# Altium integrated library Cypress USB Low-Speed.IntLib: 40 symbols (part 1 of 3)
Pins are listed as number, name and electrical type; pins without a type are passive.

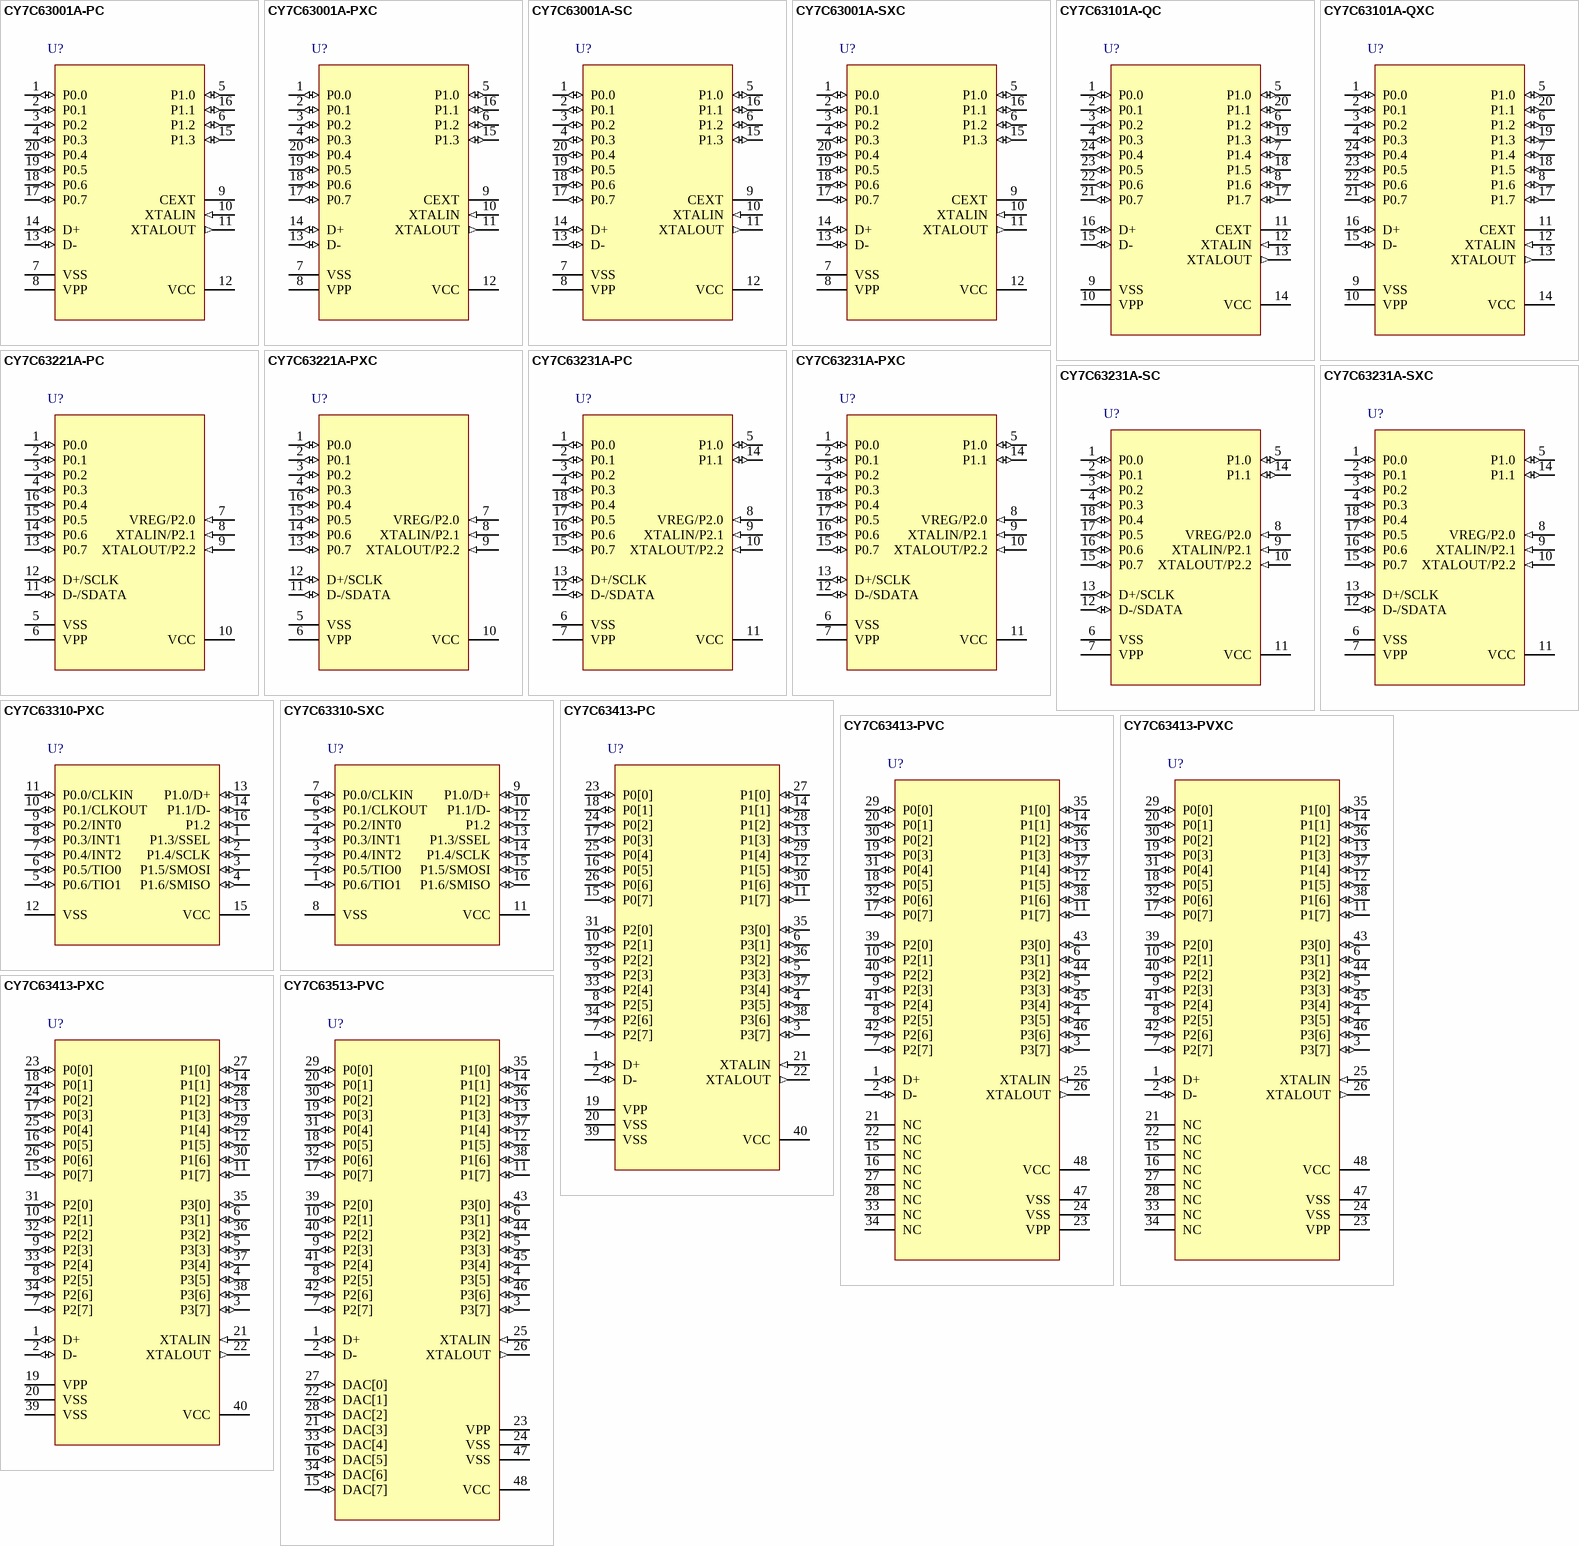
[diagram p0: symbols CY7C63001A-PC to CY7C63513-PVC]

## CY7C63001A-PC
designator U?
Low-Speed USB Peripheral Controller, 4KB EPROM, 20-Pin PDIP, Commercial Grade,; Published: 6-Oct-2005; DatasheetVersion: rev.A, Oct-2004; PackageVersion: Oct-2004; PackageReference: P5; Publisher: Altium Limited; PackageDescription: DIP, Molded; 20 Leads; Row Spacing 7.62 mm; Pitch 2.54 mm; Code_JEDEC: MS-001-AD; ComponentLink1Description: Manufacturer Link; ComponentLink1URL: http://www.cypress.com/; ComponentLink2Description: Datasheet; ComponentLink2URL: http://www.cypress.com/portal/server.pt/gateway/PTARGS_0_2_1524_209_259_43/http%3B/sjapp20.mis.cypress.com%3B7001/publishedcontent/publish/design_resources/datasheets/contents/cy7c63101a_5.pdf
footprint P5 (DIP, Molded; 20 Leads; Row Spacing 7.62 mm; Pitch 2.54 mm)
pins: 1 P0.0 (io) "Port 0 bit 0", 2 P0.1 (io) "Port 0 bit 1", 3 P0.2 (io) "Port 0 bit 2", 4 P0.3 (io) "Port 0 bit 3", 5 P1.0 (io) "Port 1 bit 0", 6 P1.2 (io) "Port 1 bit 2", 7 VSS (power) "Ground", 8 VPP (power) "Programming voltage supply, tie to ground during normal operation", 9 CEXT "Connects to external R/C timing circuit for optional ‘suspend’ wakeup", 10 XTALIN (in) "Ceramic resonator", 11 XTALOUT (out) "Ceramic resonator out", 12 VCC (power) "Voltage supply", 13 D- (io) "USB data-", 14 D+ (io) "USB data+", 15 P1.3 (io) "Port 1 bit 3", 16 P1.1 (io) "Port 1 bit 1", 17 P0.7 (io) "Port 0 bit 7", 18 P0.6 (io) "Port 0 bit 6", 19 P0.5 (io) "Port 0 bit 5", 20 P0.4 (io) "Port 0 bit 4"

## CY7C63001A-PXC
designator U?
Low-Speed USB Peripheral Controller, 4KB EPROM, 20-Pin PDIP, Commercial Grade, Pb-free; Published: 6-Oct-2005; DatasheetVersion: rev.A, Oct-2004; PackageVersion: Oct-2004; PackageReference: P5; Publisher: Altium Limited; PackageDescription: DIP, Molded; 20 Leads; Row Spacing 7.62 mm; Pitch 2.54 mm; Code_JEDEC: MS-001-AD; ComponentLink1Description: Manufacturer Link; ComponentLink1URL: http://www.cypress.com/; ComponentLink2Description: Datasheet; ComponentLink2URL: http://www.cypress.com/portal/server.pt/gateway/PTARGS_0_2_1524_209_259_43/http%3B/sjapp20.mis.cypress.com%3B7001/publishedcontent/publish/design_resources/datasheets/contents/cy7c63101a_5.pdf
footprint P5 (DIP, Molded; 20 Leads; Row Spacing 7.62 mm; Pitch 2.54 mm)
pins: 1 P0.0 (io) "Port 0 bit 0", 2 P0.1 (io) "Port 0 bit 1", 3 P0.2 (io) "Port 0 bit 2", 4 P0.3 (io) "Port 0 bit 3", 5 P1.0 (io) "Port 1 bit 0", 6 P1.2 (io) "Port 1 bit 2", 7 VSS (power) "Ground", 8 VPP (power) "Programming voltage supply, tie to ground during normal operation", 9 CEXT "Connects to external R/C timing circuit for optional ‘suspend’ wakeup", 10 XTALIN (in) "Ceramic resonator", 11 XTALOUT (out) "Ceramic resonator out", 12 VCC (power) "Voltage supply", 13 D- (io) "USB data-", 14 D+ (io) "USB data+", 15 P1.3 (io) "Port 1 bit 3", 16 P1.1 (io) "Port 1 bit 1", 17 P0.7 (io) "Port 0 bit 7", 18 P0.6 (io) "Port 0 bit 6", 19 P0.5 (io) "Port 0 bit 5", 20 P0.4 (io) "Port 0 bit 4"

## CY7C63001A-SC
designator U?
Low-Speed USB Peripheral Controller, 4KB EPROM, 20-Pin SOIC, Commercial Grade,; Published: 6-Oct-2005; LatestRevisionDate: 13-Apr-2006; LatestRevisionNote: IPC-7351 Footprint Added.; DatasheetVersion: rev.A, Oct-2004; PackageVersion: Oct-2004; PackageReference: S5; Publisher: Altium Limited; PackageDescription: 20-Pin Molded Small Outline Integrated Circuit 1.27 mm Pitch; Code_JEDEC: MS-013-AC; Code_IPC: SOIC127P1030-20; ComponentLink1Description: Manufacturer Link; ComponentLink1URL: http://www.cypress.com/; ComponentLink2Description: Datasheet; ComponentLink2URL: http://www.cypress.com/portal/server.pt/gateway/PTARGS_0_2_1524_209_259_43/http%3B/sjapp20.mis.cypress.com%3B7001/publishedcontent/publish/design_resources/datasheets/contents/cy7c63101a_5.pdf
footprint S5_N (SOIC, 20-Leads, Body 12.8x7.5mm, Pitch 1.27mm, IPC Medium Density)
footprint S5_L (SOIC, 20-Leads, Body 12.8x7.5mm, Pitch 1.27mm, IPC High Density)
footprint S5_M (SOIC, 20-Leads, Body 12.8x7.5mm, Pitch 1.27mm, IPC Low Density)
pins: 1 P0.0 (io) "Port 0 bit 0", 2 P0.1 (io) "Port 0 bit 1", 3 P0.2 (io) "Port 0 bit 2", 4 P0.3 (io) "Port 0 bit 3", 5 P1.0 (io) "Port 1 bit 0", 6 P1.2 (io) "Port 1 bit 2", 7 VSS (power) "Ground", 8 VPP (power) "Programming voltage supply, tie to ground during normal operation", 9 CEXT "Connects to external R/C timing circuit for optional ‘suspend’ wakeup", 10 XTALIN (in) "Ceramic resonator", 11 XTALOUT (out) "Ceramic resonator out", 12 VCC (power) "Voltage supply", 13 D- (io) "USB data-", 14 D+ (io) "USB data+", 15 P1.3 (io) "Port 1 bit 3", 16 P1.1 (io) "Port 1 bit 1", 17 P0.7 (io) "Port 0 bit 7", 18 P0.6 (io) "Port 0 bit 6", 19 P0.5 (io) "Port 0 bit 5", 20 P0.4 (io) "Port 0 bit 4"

## CY7C63001A-SXC
designator U?
Low-Speed USB Peripheral Controller, 4KB EPROM, 20-Pin SOIC, Commercial Grade, Pb-free; Published: 6-Oct-2005; LatestRevisionDate: 13-Apr-2006; LatestRevisionNote: IPC-7351 Footprint Added.; DatasheetVersion: rev.A, Oct-2004; PackageVersion: Oct-2004; PackageReference: S5; Publisher: Altium Limited; PackageDescription: 20-Pin Molded Small Outline Integrated Circuit 1.27 mm Pitch; Code_JEDEC: MS-013-AC; Code_IPC: SOIC127P1030-20; ComponentLink1Description: Manufacturer Link; ComponentLink1URL: http://www.cypress.com/; ComponentLink2Description: Datasheet; ComponentLink2URL: http://www.cypress.com/portal/server.pt/gateway/PTARGS_0_2_1524_209_259_43/http%3B/sjapp20.mis.cypress.com%3B7001/publishedcontent/publish/design_resources/datasheets/contents/cy7c63101a_5.pdf
footprint S5_N (SOIC, 20-Leads, Body 12.8x7.5mm, Pitch 1.27mm, IPC Medium Density)
footprint S5_L (SOIC, 20-Leads, Body 12.8x7.5mm, Pitch 1.27mm, IPC High Density)
footprint S5_M (SOIC, 20-Leads, Body 12.8x7.5mm, Pitch 1.27mm, IPC Low Density)
pins: 1 P0.0 (io) "Port 0 bit 0", 2 P0.1 (io) "Port 0 bit 1", 3 P0.2 (io) "Port 0 bit 2", 4 P0.3 (io) "Port 0 bit 3", 5 P1.0 (io) "Port 1 bit 0", 6 P1.2 (io) "Port 1 bit 2", 7 VSS (power) "Ground", 8 VPP (power) "Programming voltage supply, tie to ground during normal operation", 9 CEXT "Connects to external R/C timing circuit for optional ‘suspend’ wakeup", 10 XTALIN (in) "Ceramic resonator", 11 XTALOUT (out) "Ceramic resonator out", 12 VCC (power) "Voltage supply", 13 D- (io) "USB data-", 14 D+ (io) "USB data+", 15 P1.3 (io) "Port 1 bit 3", 16 P1.1 (io) "Port 1 bit 1", 17 P0.7 (io) "Port 0 bit 7", 18 P0.6 (io) "Port 0 bit 6", 19 P0.5 (io) "Port 0 bit 5", 20 P0.4 (io) "Port 0 bit 4"

## CY7C63101A-QC
designator U?
Low-Speed USB Peripheral Controller, 4KB EPROM, 24-Pin QSOP, Commercial Grade,; Published: 6-Oct-2005; DatasheetVersion: rev.A, Oct-2004; PackageVersion: Oct-2004; PackageReference: Q13; Publisher: Altium Limited; PackageDescription: SSOP; 24 Leads; Body Width 3.9 mm; Pitch 0.635 mm; ComponentLink1Description: Manufacturer Link; ComponentLink1URL: http://www.cypress.com/; ComponentLink2Description: Datasheet; ComponentLink2URL: http://www.cypress.com/portal/server.pt/gateway/PTARGS_0_2_1524_209_259_43/http%3B/sjapp20.mis.cypress.com%3B7001/publishedcontent/publish/design_resources/datasheets/contents/cy7c63101a_5.pdf
footprint Q13 (SSOP; 24 Leads; Body Width 3.9 mm; Pitch 0.635 mm)
pins: 1 P0.0 (io) "Port 0 bit 0", 2 P0.1 (io) "Port 0 bit 1", 3 P0.2 (io) "Port 0 bit 2", 4 P0.3 (io) "Port 0 bit 3", 5 P1.0 (io) "Port 1 bit 0", 6 P1.2 (io) "Port 1 bit 2", 7 P1.4 (io) "Port 1 bit 4", 8 P1.6 (io) "Port 1 bit 6", 9 VSS (power) "Ground", 10 VPP (power) "Programming voltage supply, tie to ground during normal operation", 11 CEXT "Connects to external R/C timing circuit for optional ‘suspend’ wakeup", 12 XTALIN (in) "Ceramic resonator", 13 XTALOUT (out) "Ceramic resonator out", 14 VCC (power) "Voltage supply", 15 D- (io) "USB data-", 16 D+ (io) "USB data+", 17 P1.7 (io) "Port 1 bit 7", 18 P1.5 (io) "Port 1 bit 5", 19 P1.3 (io) "Port 1 bit 3", 20 P1.1 (io) "Port 1 bit 1", 21 P0.7 (io) "Port 0 bit 7", 22 P0.6 (io) "Port 0 bit 6", 23 P0.5 (io) "Port 0 bit 5", 24 P0.4 (io) "Port 0 bit 4"

## CY7C63101A-QXC
designator U?
Low-Speed USB Peripheral Controller, 4KB EPROM, 24-Pin QSOP, Commercial Grade, Pb-free; Published: 6-Oct-2005; DatasheetVersion: rev.A, Oct-2004; PackageVersion: Oct-2004; PackageReference: Q13; Publisher: Altium Limited; PackageDescription: SSOP; 24 Leads; Body Width 3.9 mm; Pitch 0.635 mm; ComponentLink1Description: Manufacturer Link; ComponentLink1URL: http://www.cypress.com/; ComponentLink2Description: Datasheet; ComponentLink2URL: http://www.cypress.com/portal/server.pt/gateway/PTARGS_0_2_1524_209_259_43/http%3B/sjapp20.mis.cypress.com%3B7001/publishedcontent/publish/design_resources/datasheets/contents/cy7c63101a_5.pdf
footprint Q13 (SSOP; 24 Leads; Body Width 3.9 mm; Pitch 0.635 mm)
pins: 1 P0.0 (io) "Port 0 bit 0", 2 P0.1 (io) "Port 0 bit 1", 3 P0.2 (io) "Port 0 bit 2", 4 P0.3 (io) "Port 0 bit 3", 5 P1.0 (io) "Port 1 bit 0", 6 P1.2 (io) "Port 1 bit 2", 7 P1.4 (io) "Port 1 bit 4", 8 P1.6 (io) "Port 1 bit 6", 9 VSS (power) "Ground", 10 VPP (power) "Programming voltage supply, tie to ground during normal operation", 11 CEXT "Connects to external R/C timing circuit for optional ‘suspend’ wakeup", 12 XTALIN (in) "Ceramic resonator", 13 XTALOUT (out) "Ceramic resonator out", 14 VCC (power) "Voltage supply", 15 D- (io) "USB data-", 16 D+ (io) "USB data+", 17 P1.7 (io) "Port 1 bit 7", 18 P1.5 (io) "Port 1 bit 5", 19 P1.3 (io) "Port 1 bit 3", 20 P1.1 (io) "Port 1 bit 1", 21 P0.7 (io) "Port 0 bit 7", 22 P0.6 (io) "Port 0 bit 6", 23 P0.5 (io) "Port 0 bit 5", 24 P0.4 (io) "Port 0 bit 4"

## CY7C63221A-PC
designator U?
enCoRe, Low-Speed USB Peripheral Controller, 3KB EPROM, 16-Pin PDIP, Commercial Grade,; Published: 6-Oct-2005; DatasheetVersion: rev.B, Sep -2004; PackageVersion: Mar-2005; PackageReference: P1; Publisher: Altium Limited; PackageDescription: DIP, Molded; 16 Leads; Row Spacing 7.62 mm; Pitch 2.54 mm; ComponentLink1Description: Manufacturer Link; ComponentLink1URL: http://www.cypress.com/; ComponentLink2Description: Datasheet; ComponentLink2URL: http://www.cypress.com/portal/server.pt/gateway/PTARGS_0_2_1524_209_259_43/http%3B/sjapp20.mis.cypress.com%3B7001/publishedcontent/publish/design_resources/datasheets/contents/cy7c632xx_5.pdf
footprint P1 (DIP, Molded; 16 Leads; Row Spacing 7.62 mm; Pitch 2.54 mm)
pins: 1 P0.0 (io) "GPIO Port 0 capable of sinking up to 50 mA/pin, or sinking controlled low or high programmable current. Can also source 2 mA current, provide a resistive pull-up, or serve as a high-impedance input.", 2 P0.1 (io) "GPIO Port 0 capable of sinking up to 50 mA/pin, or sinking controlled low or high programmable current. Can also source 2 mA current, provide a resistive pull-up, or serve as a high-impedance input.", 3 P0.2 (io) "GPIO Port 0 capable of sinking up to 50 mA/pin, or sinking controlled low or high programmable current. Can also source 2 mA current, provide a resistive pull-up, or serve as a high-impedance input.", 4 P0.3 (io) "GPIO Port 0 capable of sinking up to 50 mA/pin, or sinking controlled low or high programmable current. Can also source 2 mA current, provide a resistive pull-up, or serve as a high-impedance input.", 5 VSS (power) "Ground", 6 VPP (power) "Programming voltage supply, ground for normal operation", 7 VREG/P2.0 (in) "Voltage supply for 1.3-k? USB pull-up resistor (3.3V nominal). Also serves as P2.0 input.", 8 XTALIN/P2.1 (in) "6-MHz ceramic resonator or external clock input, or P2.1 input", 9 XTALOUT/P2.2 (in) "6-MHz ceramic resonator return pin or internal oscillator output, or P2.2 input", 10 VCC (power) "Voltage supply", 11 D-/SDATA (io) "USB differential data line or PS/2 data signal", 12 D+/SCLK (io) "USB differential data line or PS/2 clock signal", 13 P0.7 (io) "GPIO Port 0 capable of sinking up to 50 mA/pin, or sinking controlled low or high programmable current. Can also source 2 mA current, provide a resistive pull-up, or serve as a high-impedance input.", 14 P0.6 (io) "GPIO Port 0 capable of sinking up to 50 mA/pin, or sinking controlled low or high programmable current. Can also source 2 mA current, provide a resistive pull-up, or serve as a high-impedance input.", 15 P0.5 (io) "GPIO Port 0 capable of sinking up to 50 mA/pin, or sinking controlled low or high programmable current. Can also source 2 mA current, provide a resistive pull-up, or serve as a high-impedance input.", 16 P0.4 (io) "GPIO Port 0 capable of sinking up to 50 mA/pin, or sinking controlled low or high programmable current. Can also source 2 mA current, provide a resistive pull-up, or serve as a high-impedance input."

## CY7C63221A-PXC
designator U?
enCoRe, Low-Speed USB Peripheral Controller, 3KB EPROM, 16-Pin PDIP, Commercial Grade, Pb-free; Published: 6-Oct-2005; DatasheetVersion: rev.B, Sep -2004; PackageVersion: Mar-2005; PackageReference: P1; Publisher: Altium Limited; PackageDescription: DIP, Molded; 16 Leads; Row Spacing 7.62 mm; Pitch 2.54 mm; ComponentLink1Description: Manufacturer Link; ComponentLink1URL: http://www.cypress.com/; ComponentLink2Description: Datasheet; ComponentLink2URL: http://www.cypress.com/portal/server.pt/gateway/PTARGS_0_2_1524_209_259_43/http%3B/sjapp20.mis.cypress.com%3B7001/publishedcontent/publish/design_resources/datasheets/contents/cy7c632xx_5.pdf
footprint P1 (DIP, Molded; 16 Leads; Row Spacing 7.62 mm; Pitch 2.54 mm)
pins: 1 P0.0 (io) "GPIO Port 0 capable of sinking up to 50 mA/pin, or sinking controlled low or high programmable current. Can also source 2 mA current, provide a resistive pull-up, or serve as a high-impedance input.", 2 P0.1 (io) "GPIO Port 0 capable of sinking up to 50 mA/pin, or sinking controlled low or high programmable current. Can also source 2 mA current, provide a resistive pull-up, or serve as a high-impedance input.", 3 P0.2 (io) "GPIO Port 0 capable of sinking up to 50 mA/pin, or sinking controlled low or high programmable current. Can also source 2 mA current, provide a resistive pull-up, or serve as a high-impedance input.", 4 P0.3 (io) "GPIO Port 0 capable of sinking up to 50 mA/pin, or sinking controlled low or high programmable current. Can also source 2 mA current, provide a resistive pull-up, or serve as a high-impedance input.", 5 VSS (power) "Ground", 6 VPP (power) "Programming voltage supply, ground for normal operation", 7 VREG/P2.0 (in) "Voltage supply for 1.3-k? USB pull-up resistor (3.3V nominal). Also serves as P2.0 input.", 8 XTALIN/P2.1 (in) "6-MHz ceramic resonator or external clock input, or P2.1 input", 9 XTALOUT/P2.2 (in) "6-MHz ceramic resonator return pin or internal oscillator output, or P2.2 input", 10 VCC (power) "Voltage supply", 11 D-/SDATA (io) "USB differential data line or PS/2 data signal", 12 D+/SCLK (io) "USB differential data line or PS/2 clock signal", 13 P0.7 (io) "GPIO Port 0 capable of sinking up to 50 mA/pin, or sinking controlled low or high programmable current. Can also source 2 mA current, provide a resistive pull-up, or serve as a high-impedance input.", 14 P0.6 (io) "GPIO Port 0 capable of sinking up to 50 mA/pin, or sinking controlled low or high programmable current. Can also source 2 mA current, provide a resistive pull-up, or serve as a high-impedance input.", 15 P0.5 (io) "GPIO Port 0 capable of sinking up to 50 mA/pin, or sinking controlled low or high programmable current. Can also source 2 mA current, provide a resistive pull-up, or serve as a high-impedance input.", 16 P0.4 (io) "GPIO Port 0 capable of sinking up to 50 mA/pin, or sinking controlled low or high programmable current. Can also source 2 mA current, provide a resistive pull-up, or serve as a high-impedance input."

## CY7C63231A-PC
designator U?
enCoRe, Low-Speed USB Peripheral Controller, 3KB EPROM, 18-Pin PDIP, Commercial Grade,; Published: 6-Oct-2005; DatasheetVersion: rev.B, Sep -2004; PackageVersion: Mar-2005; PackageReference: P3; Publisher: Altium Limited; PackageDescription: DIP, Molded; 18 Leads; Row Spacing 7.62 mm; Pitch 2.54 mm; ComponentLink1Description: Manufacturer Link; ComponentLink1URL: http://www.cypress.com/; ComponentLink2Description: Datasheet; ComponentLink2URL: http://www.cypress.com/portal/server.pt/gateway/PTARGS_0_2_1524_209_259_43/http%3B/sjapp20.mis.cypress.com%3B7001/publishedcontent/publish/design_resources/datasheets/contents/cy7c632xx_5.pdf
footprint P3 (DIP, Molded; 18 Leads; Row Spacing 7.62 mm; Pitch 2.54 mm)
pins: 1 P0.0 (io) "GPIO Port 0 capable of sinking up to 50 mA/pin, or sinking controlled low or high programmable current. Can also source 2 mA current, provide a resistive pull-up, or serve as a high-impedance input.", 2 P0.1 (io) "GPIO Port 0 capable of sinking up to 50 mA/pin, or sinking controlled low or high programmable current. Can also source 2 mA current, provide a resistive pull-up, or serve as a high-impedance input.", 3 P0.2 (io) "GPIO Port 0 capable of sinking up to 50 mA/pin, or sinking controlled low or high programmable current. Can also source 2 mA current, provide a resistive pull-up, or serve as a high-impedance input.", 4 P0.3 (io) "GPIO Port 0 capable of sinking up to 50 mA/pin, or sinking controlled low or high programmable current. Can also source 2 mA current, provide a resistive pull-up, or serve as a high-impedance input.", 5 P1.0 (io) "IO Port 1 capable of sinking up to 50 mA/pin, or sinking controlled low or high programmable current. Can also source 2 mA current, provide a resistive pull-up, or serve as a high-impedance input.", 6 VSS (power) "Ground", 7 VPP (power) "Programming voltage supply, ground for normal operation", 8 VREG/P2.0 (in) "Voltage supply for 1.3-k? USB pull-up resistor (3.3V nominal). Also serves as P2.0 input.", 9 XTALIN/P2.1 (in) "6-MHz ceramic resonator or external clock input, or P2.1 input", 10 XTALOUT/P2.2 (in) "6-MHz ceramic resonator return pin or internal oscillator output, or P2.2 input", 11 VCC (power) "Voltage supply", 12 D-/SDATA (io) "USB differential data line or PS/2 data signal", 13 D+/SCLK (io) "USB differential data line or PS/2 clock signal", 14 P1.1 (io) "IO Port 1 capable of sinking up to 50 mA/pin, or sinking controlled low or high programmable current. Can also source 2 mA current, provide a resistive pull-up, or serve as a high-impedance input.", 15 P0.7 (io) "GPIO Port 0 capable of sinking up to 50 mA/pin, or sinking controlled low or high programmable current. Can also source 2 mA current, provide a resistive pull-up, or serve as a high-impedance input.", 16 P0.6 (io) "GPIO Port 0 capable of sinking up to 50 mA/pin, or sinking controlled low or high programmable current. Can also source 2 mA current, provide a resistive pull-up, or serve as a high-impedance input.", 17 P0.5 (io) "GPIO Port 0 capable of sinking up to 50 mA/pin, or sinking controlled low or high programmable current. Can also source 2 mA current, provide a resistive pull-up, or serve as a high-impedance input.", 18 P0.4 (io) "GPIO Port 0 capable of sinking up to 50 mA/pin, or sinking controlled low or high programmable current. Can also source 2 mA current, provide a resistive pull-up, or serve as a high-impedance input."

## CY7C63231A-PXC
designator U?
enCoRe, Low-Speed USB Peripheral Controller, 3KB EPROM, 18-Pin PDIP, Commercial Grade, Pb-free; Published: 6-Oct-2005; DatasheetVersion: rev.B, Sep -2004; PackageVersion: Mar-2005; PackageReference: P3; Publisher: Altium Limited; PackageDescription: DIP, Molded; 18 Leads; Row Spacing 7.62 mm; Pitch 2.54 mm; ComponentLink1Description: Manufacturer Link; ComponentLink1URL: http://www.cypress.com/; ComponentLink2Description: Datasheet; ComponentLink2URL: http://www.cypress.com/portal/server.pt/gateway/PTARGS_0_2_1524_209_259_43/http%3B/sjapp20.mis.cypress.com%3B7001/publishedcontent/publish/design_resources/datasheets/contents/cy7c632xx_5.pdf
footprint P3 (DIP, Molded; 18 Leads; Row Spacing 7.62 mm; Pitch 2.54 mm)
pins: 1 P0.0 (io) "GPIO Port 0 capable of sinking up to 50 mA/pin, or sinking controlled low or high programmable current. Can also source 2 mA current, provide a resistive pull-up, or serve as a high-impedance input.", 2 P0.1 (io) "GPIO Port 0 capable of sinking up to 50 mA/pin, or sinking controlled low or high programmable current. Can also source 2 mA current, provide a resistive pull-up, or serve as a high-impedance input.", 3 P0.2 (io) "GPIO Port 0 capable of sinking up to 50 mA/pin, or sinking controlled low or high programmable current. Can also source 2 mA current, provide a resistive pull-up, or serve as a high-impedance input.", 4 P0.3 (io) "GPIO Port 0 capable of sinking up to 50 mA/pin, or sinking controlled low or high programmable current. Can also source 2 mA current, provide a resistive pull-up, or serve as a high-impedance input.", 5 P1.0 (io) "IO Port 1 capable of sinking up to 50 mA/pin, or sinking controlled low or high programmable current. Can also source 2 mA current, provide a resistive pull-up, or serve as a high-impedance input.", 6 VSS (power) "Ground", 7 VPP (power) "Programming voltage supply, ground for normal operation", 8 VREG/P2.0 (in) "Voltage supply for 1.3-k? USB pull-up resistor (3.3V nominal). Also serves as P2.0 input.", 9 XTALIN/P2.1 (in) "6-MHz ceramic resonator or external clock input, or P2.1 input", 10 XTALOUT/P2.2 (in) "6-MHz ceramic resonator return pin or internal oscillator output, or P2.2 input", 11 VCC (power) "Voltage supply", 12 D-/SDATA (io) "USB differential data line or PS/2 data signal", 13 D+/SCLK (io) "USB differential data line or PS/2 clock signal", 14 P1.1 (io) "IO Port 1 capable of sinking up to 50 mA/pin, or sinking controlled low or high programmable current. Can also source 2 mA current, provide a resistive pull-up, or serve as a high-impedance input.", 15 P0.7 (io) "GPIO Port 0 capable of sinking up to 50 mA/pin, or sinking controlled low or high programmable current. Can also source 2 mA current, provide a resistive pull-up, or serve as a high-impedance input.", 16 P0.6 (io) "GPIO Port 0 capable of sinking up to 50 mA/pin, or sinking controlled low or high programmable current. Can also source 2 mA current, provide a resistive pull-up, or serve as a high-impedance input.", 17 P0.5 (io) "GPIO Port 0 capable of sinking up to 50 mA/pin, or sinking controlled low or high programmable current. Can also source 2 mA current, provide a resistive pull-up, or serve as a high-impedance input.", 18 P0.4 (io) "GPIO Port 0 capable of sinking up to 50 mA/pin, or sinking controlled low or high programmable current. Can also source 2 mA current, provide a resistive pull-up, or serve as a high-impedance input."

## CY7C63231A-SC
designator U?
enCoRe, Low-Speed USB Peripheral Controller, 3KB EPROM, 18-Pin SOIC, Commercial Grade,; Published: 6-Oct-2005; LatestRevisionDate: 13-Apr-2006; LatestRevisionNote: IPC-7351 Footprint Added.; DatasheetVersion: rev.B, Sep -2004; PackageVersion: Sep-2004; PackageReference: S1; Publisher: Altium Limited; PackageDescription: 18-Pin Small Outline Integrated Circuit 1.27 mm Pitch; ComponentLink1Description: Manufacturer Link; ComponentLink1URL: http://www.cypress.com/; ComponentLink2Description: Datasheet; ComponentLink2URL: http://www.cypress.com/portal/server.pt/gateway/PTARGS_0_2_1524_209_259_43/http%3B/sjapp20.mis.cypress.com%3B7001/publishedcontent/publish/design_resources/datasheets/contents/cy7c632xx_5.pdf
footprint S1_N (SOIC, 18-Leads, Body 11.6x7.5mm, Pitch 1.27mm, IPC Medium Density)
footprint S1_L (SOIC, 18-Leads, Body 11.6x7.5mm, Pitch 1.27mm, IPC High Density)
footprint S1_M (SOIC, 18-Leads, Body 11.6x7.5mm, Pitch 1.27mm, IPC Low Density)
pins: 1 P0.0 (io) "GPIO Port 0 capable of sinking up to 50 mA/pin, or sinking controlled low or high programmable current. Can also source 2 mA current, provide a resistive pull-up, or serve as a high-impedance input.", 2 P0.1 (io) "GPIO Port 0 capable of sinking up to 50 mA/pin, or sinking controlled low or high programmable current. Can also source 2 mA current, provide a resistive pull-up, or serve as a high-impedance input.", 3 P0.2 (io) "GPIO Port 0 capable of sinking up to 50 mA/pin, or sinking controlled low or high programmable current. Can also source 2 mA current, provide a resistive pull-up, or serve as a high-impedance input.", 4 P0.3 (io) "GPIO Port 0 capable of sinking up to 50 mA/pin, or sinking controlled low or high programmable current. Can also source 2 mA current, provide a resistive pull-up, or serve as a high-impedance input.", 5 P1.0 (io) "IO Port 1 capable of sinking up to 50 mA/pin, or sinking controlled low or high programmable current. Can also source 2 mA current, provide a resistive pull-up, or serve as a high-impedance input.", 6 VSS (power) "Ground", 7 VPP (power) "Programming voltage supply, ground for normal operation", 8 VREG/P2.0 (in) "Voltage supply for 1.3-k? USB pull-up resistor (3.3V nominal). Also serves as P2.0 input.", 9 XTALIN/P2.1 (in) "6-MHz ceramic resonator or external clock input, or P2.1 input", 10 XTALOUT/P2.2 (in) "6-MHz ceramic resonator return pin or internal oscillator output, or P2.2 input", 11 VCC (power) "Voltage supply", 12 D-/SDATA (io) "USB differential data line or PS/2 data signal", 13 D+/SCLK (io) "USB differential data line or PS/2 clock signal", 14 P1.1 (io) "IO Port 1 capable of sinking up to 50 mA/pin, or sinking controlled low or high programmable current. Can also source 2 mA current, provide a resistive pull-up, or serve as a high-impedance input.", 15 P0.7 (io) "GPIO Port 0 capable of sinking up to 50 mA/pin, or sinking controlled low or high programmable current. Can also source 2 mA current, provide a resistive pull-up, or serve as a high-impedance input.", 16 P0.6 (io) "GPIO Port 0 capable of sinking up to 50 mA/pin, or sinking controlled low or high programmable current. Can also source 2 mA current, provide a resistive pull-up, or serve as a high-impedance input.", 17 P0.5 (io) "GPIO Port 0 capable of sinking up to 50 mA/pin, or sinking controlled low or high programmable current. Can also source 2 mA current, provide a resistive pull-up, or serve as a high-impedance input.", 18 P0.4 (io) "GPIO Port 0 capable of sinking up to 50 mA/pin, or sinking controlled low or high programmable current. Can also source 2 mA current, provide a resistive pull-up, or serve as a high-impedance input."

## CY7C63231A-SXC
designator U?
enCoRe, Low-Speed USB Peripheral Controller, 3KB EPROM, 18-Pin SOIC, Commercial Grade, Pb-free; Published: 6-Oct-2005; LatestRevisionDate: 13-Apr-2006; LatestRevisionNote: IPC-7351 Footprint Added.; DatasheetVersion: rev.B, Sep -2004; PackageVersion: Sep-2004; PackageReference: S1; Publisher: Altium Limited; PackageDescription: 18-Pin Small Outline Integrated Circuit 1.27 mm Pitch; ComponentLink1Description: Manufacturer Link; ComponentLink1URL: http://www.cypress.com/; ComponentLink2Description: Datasheet; ComponentLink2URL: http://www.cypress.com/portal/server.pt/gateway/PTARGS_0_2_1524_209_259_43/http%3B/sjapp20.mis.cypress.com%3B7001/publishedcontent/publish/design_resources/datasheets/contents/cy7c632xx_5.pdf
footprint S1_N (SOIC, 18-Leads, Body 11.6x7.5mm, Pitch 1.27mm, IPC Medium Density)
footprint S1_L (SOIC, 18-Leads, Body 11.6x7.5mm, Pitch 1.27mm, IPC High Density)
footprint S1_M (SOIC, 18-Leads, Body 11.6x7.5mm, Pitch 1.27mm, IPC Low Density)
pins: 1 P0.0 (io) "GPIO Port 0 capable of sinking up to 50 mA/pin, or sinking controlled low or high programmable current. Can also source 2 mA current, provide a resistive pull-up, or serve as a high-impedance input.", 2 P0.1 (io) "GPIO Port 0 capable of sinking up to 50 mA/pin, or sinking controlled low or high programmable current. Can also source 2 mA current, provide a resistive pull-up, or serve as a high-impedance input.", 3 P0.2 (io) "GPIO Port 0 capable of sinking up to 50 mA/pin, or sinking controlled low or high programmable current. Can also source 2 mA current, provide a resistive pull-up, or serve as a high-impedance input.", 4 P0.3 (io) "GPIO Port 0 capable of sinking up to 50 mA/pin, or sinking controlled low or high programmable current. Can also source 2 mA current, provide a resistive pull-up, or serve as a high-impedance input.", 5 P1.0 (io) "IO Port 1 capable of sinking up to 50 mA/pin, or sinking controlled low or high programmable current. Can also source 2 mA current, provide a resistive pull-up, or serve as a high-impedance input.", 6 VSS (power) "Ground", 7 VPP (power) "Programming voltage supply, ground for normal operation", 8 VREG/P2.0 (in) "Voltage supply for 1.3-k? USB pull-up resistor (3.3V nominal). Also serves as P2.0 input.", 9 XTALIN/P2.1 (in) "6-MHz ceramic resonator or external clock input, or P2.1 input", 10 XTALOUT/P2.2 (in) "6-MHz ceramic resonator return pin or internal oscillator output, or P2.2 input", 11 VCC (power) "Voltage supply", 12 D-/SDATA (io) "USB differential data line or PS/2 data signal", 13 D+/SCLK (io) "USB differential data line or PS/2 clock signal", 14 P1.1 (io) "IO Port 1 capable of sinking up to 50 mA/pin, or sinking controlled low or high programmable current. Can also source 2 mA current, provide a resistive pull-up, or serve as a high-impedance input.", 15 P0.7 (io) "GPIO Port 0 capable of sinking up to 50 mA/pin, or sinking controlled low or high programmable current. Can also source 2 mA current, provide a resistive pull-up, or serve as a high-impedance input.", 16 P0.6 (io) "GPIO Port 0 capable of sinking up to 50 mA/pin, or sinking controlled low or high programmable current. Can also source 2 mA current, provide a resistive pull-up, or serve as a high-impedance input.", 17 P0.5 (io) "GPIO Port 0 capable of sinking up to 50 mA/pin, or sinking controlled low or high programmable current. Can also source 2 mA current, provide a resistive pull-up, or serve as a high-impedance input.", 18 P0.4 (io) "GPIO Port 0 capable of sinking up to 50 mA/pin, or sinking controlled low or high programmable current. Can also source 2 mA current, provide a resistive pull-up, or serve as a high-impedance input."

## CY7C63310-PXC
designator U?
enCoRe II, Low-Speed USB Peripheral Controller, 3KB FLASH, 16-Pin PDIP, Commercial Grade, Pb-free; Published: 6-Oct-2005; DatasheetVersion: rev.D, Mar-2005; PackageVersion: Mar-2005; PackageReference: P1; Publisher: Altium Limited; PackageDescription: DIP, Molded; 16 Leads; Row Spacing 7.62 mm; Pitch 2.54 mm; ComponentLink1Description: Manufacturer Link; ComponentLink1URL: http://www.cypress.com/; ComponentLink2Description: Datasheet; ComponentLink2URL: http://www.cypress.com/portal/server.pt/gateway/PTARGS_0_2_1524_209_259_43/http%3B/sjapp20.mis.cypress.com%3B7001/publishedcontent/publish/design_resources/datasheets/contents/cy7c633xx_5.pdf
footprint P1 (DIP, Molded; 16 Leads; Row Spacing 7.62 mm; Pitch 2.54 mm)
pins: 1 P1.3/SSEL (io) "GPIO Port 1 bit 3 - Configured individually. Alternate function is SSEL signal of the SPI bus TTL voltage thresholds", 2 P1.4/SCLK (io) "GPIO Port 1 bit 4 - Configured individually. Alternate function is SCLK signal of the SPI bus TTL voltage thresholds", 3 P1.5/SMOSI (io) "GPIO Port 1 bit 5 - Configured individually. Alternate function is SMOSI signal of the SPI bus TTL voltage thresholds", 4 P1.6/SMISO (io) "GPIO Port 1 bit 6 - Configured individually. Alternate function is SMISO signal of the SPI bus TTL voltage thresholds", 5 P0.6/TIO1 (io) "GPIO port 0 bit 6 - Configured individually Alternate function Timer capture inputs or Timer output TIO1", 6 P0.5/TIO0 (io) "GPIO port 0 bit 5 - Configured individually Alternate function Timer capture inputs or Timer output TIO0", 7 P0.4/INT2 (io) "GPIO port 0 bit 4 - Configured individually Optional rising edge interrupt INT2", 8 P0.3/INT1 (io) "GPIO port 0 bit 3 - Configured individually Optional rising edge interrupt INT1", 9 P0.2/INT0 (io) "GPIO port 0 bit 2 - Configured individually Optional rising edge interrupt INT0", 10 P0.1/CLKOUT (io) "GPIO Port 0 bit 1 - Configured individually. Oscillator output when configured as Clock Out.", 11 P0.0/CLKIN (io) "GPIO Port 0 bit 0 - Configured individually. Oscillator input when configured as Clock In.", 12 VSS (power) "Ground", 13 P1.0/D+ (io) "GPIO Port 1 bit 0 / USB D+", 14 P1.1/D- (io) "GPIO Port 1 bit 1 / USB D-", 15 VCC (power) "Power", 16 P1.2 (io) "GPIO Port 1 bit 2 - Configured individually."

## CY7C63310-SXC
designator U?
enCoRe II, Low-Speed USB Peripheral Controller, 3KB FLASH, 16-Pin SOIC, Commercial Grade, Pb-free; Published: 6-Oct-2005; LatestRevisionDate: 13-Apr-2006; LatestRevisionNote: IPC-7351 Footprint Added.; DatasheetVersion: rev.D, Mar-2005; PackageVersion: Mar-2005; PackageReference: S16.15; Publisher: Altium Limited; PackageDescription: 16-Pin Small Outline Integrated Circuit 1.27 mm Pitch; Code_JEDEC: MS-012; ComponentLink1Description: Manufacturer Link; ComponentLink1URL: http://www.cypress.com/; ComponentLink2Description: Datasheet; ComponentLink2URL: http://www.cypress.com/portal/server.pt/gateway/PTARGS_0_2_1524_209_259_43/http%3B/sjapp20.mis.cypress.com%3B7001/publishedcontent/publish/design_resources/datasheets/contents/cy7c633xx_5.pdf
footprint S16.15_N (SOIC, 16-Leads, Body 9.9x3.9mm, Pitch 1.27mm, IPC Medium Density)
footprint S16.15_L (SOIC, 16-Leads, Body 9.9x3.9mm, Pitch 1.27mm, IPC High Density)
footprint S16.15_M (SOIC, 16-Leads, Body 9.9x3.9mm, Pitch 1.27mm, IPC Low Density)
pins: 1 P0.6/TIO1 (io) "GPIO port 0 bit 6 - Configured individually Alternate function Timer capture inputs or Timer output TIO1", 2 P0.5/TIO0 (io) "GPIO port 0 bit 5 - Configured individually Alternate function Timer capture inputs or Timer output TIO0", 3 P0.4/INT2 (io) "GPIO port 0 bit 4 - Configured individually Optional rising edge interrupt INT2", 4 P0.3/INT1 (io) "GPIO port 0 bit 3 - Configured individually Optional rising edge interrupt INT1", 5 P0.2/INT0 (io) "GPIO port 0 bit 2 - Configured individually Optional rising edge interrupt INT0", 6 P0.1/CLKOUT (io) "GPIO Port 0 bit 1 - Configured individually. Oscillator output when configured as Clock Out.", 7 P0.0/CLKIN (io) "GPIO Port 0 bit 0 - Configured individually. Oscillator input when configured as Clock In.", 8 VSS (power) "Ground", 9 P1.0/D+ (io) "GPIO Port 1 bit 0 / USB D+", 10 P1.1/D- (io) "GPIO Port 1 bit 1 / USB D-", 11 VCC (power) "Power", 12 P1.2 (io) "GPIO Port 1 bit 2 - Configured individually.", 13 P1.3/SSEL (io) "GPIO Port 1 bit 3 - Configured individually. Alternate function is SSEL signal of the SPI bus TTL voltage thresholds", 14 P1.4/SCLK (io) "GPIO Port 1 bit 4 - Configured individually. Alternate function is SCLK signal of the SPI bus TTL voltage thresholds", 15 P1.5/SMOSI (io) "GPIO Port 1 bit 5 - Configured individually. Alternate function is SMOSI signal of the SPI bus TTL voltage thresholds", 16 P1.6/SMISO (io) "GPIO Port 1 bit 6 - Configured individually. Alternate function is SMISO signal of the SPI bus TTL voltage thresholds"

## CY7C63413-PC
designator U?
Low-Speed USB Microcontroller, 8KB EPROM, 40-Pin PDIP, Commercial Grade,; Published: 6-Oct-2005; DatasheetVersion: rev.A, Jul-2004; PackageVersion: Mar-2005; PackageReference: P17; Publisher: Altium Limited; PackageDescription: DIP, Molded; 40 Leads; Row Spacing 15.24 mm; Pitch 2.54 mm; ComponentLink1Description: Manufacturer Link; ComponentLink1URL: http://www.cypress.com/; ComponentLink2Description: Datasheet; ComponentLink2URL: http://www.cypress.com/portal/server.pt/gateway/PTARGS_0_2_1524_209_259_43/http%3B/sjapp20.mis.cypress.com%3B7001/publishedcontent/publish/design_resources/datasheets/contents/cy7c63413_5.pdf
footprint P17 (DIP, Molded; 40 Leads; Row Spacing 15.24 mm; Pitch 2.54 mm)
pins: 1 D+ (io) "USB differential data; PS/2 clock and data signals", 2 D- (io) "USB differential data; PS/2 clock and data signals", 3 P3[7] (io) "GPIO Port 3 - Bit 7. Capable of sinking 12 mA (typical).", 4 P3[5] (io) "GPIO Port 3 - Bit 5. Capable of sinking 12 mA (typical).", 5 P3[3] (io) "GPIO Port 3 - Bit 3. Capable of sinking 12 mA (typical).", 6 P3[1] (io) "GPIO Port 3 - Bit 1. Capable of sinking 12 mA (typical).", 7 P2[7] (io) "GPIO Port 2 - Bit 7. Capable of sinking 7 mA (typical).", 8 P2[5] (io) "GPIO Port 2 - Bit 5. Capable of sinking 7 mA (typical).", 9 P2[3] (io) "GPIO Port 2 - Bit 3. Capable of sinking 7 mA (typical).", 10 P2[1] (io) "GPIO Port 2 - Bit 1. Capable of sinking 7 mA (typical).", 11 P1[7] (io) "GPIO Port 1 - Bit 7. Capable of sinking 7 mA (typical).", 12 P1[5] (io) "GPIO Port 1 - Bit 5. Capable of sinking 7 mA (typical).", 13 P1[3] (io) "GPIO Port 1 - Bit 3. Capable of sinking 7 mA (typical).", 14 P1[1] (io) "GPIO Port 1 - Bit 1. Capable of sinking 7 mA (typical).", 15 P0[7] (io) "GPIO port 0 - Bit 7. Capable of sinking 7 mA (typical)", 16 P0[5] (io) "GPIO port 0 - Bit 5. Capable of sinking 7 mA (typical)", 17 P0[3] (io) "GPIO port 0 - Bit 3. Capable of sinking 7 mA (typical)", 18 P0[1] (io) "GPIO port 0 - Bit 1. Capable of sinking 7 mA (typical)", 19 VPP (power) "Programming voltage supply, ground during operation", 20 VSS (power) "Ground", 21 XTALIN (in) "6-MHz ceramic resonator or external clock input", 22 XTALOUT (out) "6-MHz ceramic resonator", 23 P0[0] (io) "GPIO port 0 - Bit 0. Capable of sinking 7 mA (typical)", 24 P0[2] (io) "GPIO port 0 - Bit 2. Capable of sinking 7 mA (typical)", 25 P0[4] (io) "GPIO port 0 - Bit 4. Capable of sinking 7 mA (typical)", 26 P0[6] (io) "GPIO port 0 - Bit 6. Capable of sinking 7 mA (typical)", 27 P1[0] (io) "GPIO Port 1 - Bit 0. Capable of sinking 7 mA (typical).", 28 P1[2] (io) "GPIO Port 1 - Bit 2. Capable of sinking 7 mA (typical).", 29 P1[4] (io) "GPIO Port 1 - Bit 4. Capable of sinking 7 mA (typical).", 30 P1[6] (io) "GPIO Port 1 - Bit 6. Capable of sinking 7 mA (typical).", 31 P2[0] (io) "GPIO Port 2 - Bit 0. Capable of sinking 7 mA (typical).", 32 P2[2] (io) "GPIO Port 2 - Bit 2. Capable of sinking 7 mA (typical).", 33 P2[4] (io) "GPIO Port 2 - Bit 4. Capable of sinking 7 mA (typical).", 34 P2[6] (io) "GPIO Port 2 - Bit 6. Capable of sinking 7 mA (typical).", 35 P3[0] (io) "GPIO Port 3 - Bit 0. Capable of sinking 12 mA (typical).", 36 P3[2] (io) "GPIO Port 3 - Bit 2. Capable of sinking 12 mA (typical).", 37 P3[4] (io) "GPIO Port 3 - Bit 4. Capable of sinking 12 mA (typical).", 38 P3[6] (io) "GPIO Port 3 - Bit 6. Capable of sinking 12 mA (typical).", 39 VSS (power) "Ground", 40 VCC (power) "Voltage supply"

## CY7C63413-PVC
designator U?
Low-Speed USB Microcontroller, 8KB EPROM, 48-Pin SSOP, Commercial Grade,; Published: 6-Oct-2005; DatasheetVersion: rev.A, Jul-2004; PackageVersion: Mar-2005; PackageReference: O48; Publisher: Altium Limited; PackageDescription: SSOP; 48 Leads; Body Width 7.5 mm; Pitch 0.635 mm; Code_JEDEC: MO-118-AA; Code_IPC: SSO48; ComponentLink1Description: Manufacturer Link; ComponentLink1URL: http://www.cypress.com/; ComponentLink2Description: Datasheet; ComponentLink2URL: http://www.cypress.com/portal/server.pt/gateway/PTARGS_0_2_1524_209_259_43/http%3B/sjapp20.mis.cypress.com%3B7001/publishedcontent/publish/design_resources/datasheets/contents/cy7c63413_5.pdf
footprint O48 (SSOP; 48 Leads; Body Width 7.5 mm; Pitch 0.635 mm)
pins: 1 D+ (io) "USB differential data; PS/2 clock and data signals", 2 D- (io) "USB differential data; PS/2 clock and data signals", 3 P3[7] (io) "GPIO Port 3 - Bit 7. Capable of sinking 12 mA (typical).", 4 P3[5] (io) "GPIO Port 3 - Bit 5. Capable of sinking 12 mA (typical).", 5 P3[3] (io) "GPIO Port 3 - Bit 3. Capable of sinking 12 mA (typical).", 6 P3[1] (io) "GPIO Port 3 - Bit 1. Capable of sinking 12 mA (typical).", 7 P2[7] (io) "GPIO Port 2 - Bit 7. Capable of sinking 7 mA (typical).", 8 P2[5] (io) "GPIO Port 2 - Bit 5. Capable of sinking 7 mA (typical).", 9 P2[3] (io) "GPIO Port 2 - Bit 3. Capable of sinking 7 mA (typical).", 10 P2[1] (io) "GPIO Port 2 - Bit 1. Capable of sinking 7 mA (typical).", 11 P1[7] (io) "GPIO Port 1 - Bit 7. Capable of sinking 7 mA (typical).", 12 P1[5] (io) "GPIO Port 1 - Bit 5. Capable of sinking 7 mA (typical).", 13 P1[3] (io) "GPIO Port 1 - Bit 3. Capable of sinking 7 mA (typical).", 14 P1[1] (io) "GPIO Port 1 - Bit 1. Capable of sinking 7 mA (typical).", 15 NC "No Connect.  DAC available on the CY7C63513 part.", 16 NC "No Connect.  DAC available on the CY7C63513 part.", 17 P0[7] (io) "GPIO port 0 - Bit 7. Capable of sinking 7 mA (typical)", 18 P0[5] (io) "GPIO port 0 - Bit 5. Capable of sinking 7 mA (typical)", 19 P0[3] (io) "GPIO port 0 - Bit 3. Capable of sinking 7 mA (typical)", 20 P0[1] (io) "GPIO port 0 - Bit 1. Capable of sinking 7 mA (typical)", 21 NC "No Connect.  DAC available on the CY7C63513 part.", 22 NC "No Connect.  DAC available on the CY7C63513 part.", 23 VPP (power) "Programming voltage supply, ground during operation", 24 VSS (power) "Ground", 25 XTALIN (in) "6-MHz ceramic resonator or external clock input", 26 XTALOUT (out) "6-MHz ceramic resonator", 27 NC "No Connect.  DAC available on the CY7C63513 part.", 28 NC "No Connect.  DAC available on the CY7C63513 part.", 29 P0[0] (io) "GPIO port 0 - Bit 0. Capable of sinking 7 mA (typical)", 30 P0[2] (io) "GPIO port 0 - Bit 2. Capable of sinking 7 mA (typical)", 31 P0[4] (io) "GPIO port 0 - Bit 4. Capable of sinking 7 mA (typical)", 32 P0[6] (io) "GPIO port 0 - Bit 6. Capable of sinking 7 mA (typical)", 33 NC "No Connect.  DAC available on the CY7C63513 part.", 34 NC "No Connect.  DAC available on the CY7C63513 part.", 35 P1[0] (io) "GPIO Port 1 - Bit 0. Capable of sinking 7 mA (typical).", 36 P1[2] (io) "GPIO Port 1 - Bit 2. Capable of sinking 7 mA (typical).", 37 P1[4] (io) "GPIO Port 1 - Bit 4. Capable of sinking 7 mA (typical).", 38 P1[6] (io) "GPIO Port 1 - Bit 6. Capable of sinking 7 mA (typical).", 39 P2[0] (io) "GPIO Port 2 - Bit 0. Capable of sinking 7 mA (typical).", 40 P2[2] (io) "GPIO Port 2 - Bit 2. Capable of sinking 7 mA (typical).", 41 P2[4] (io) "GPIO Port 2 - Bit 4. Capable of sinking 7 mA (typical).", 42 P2[6] (io) "GPIO Port 2 - Bit 6. Capable of sinking 7 mA (typical).", 43 P3[0] (io) "GPIO Port 3 - Bit 0. Capable of sinking 12 mA (typical).", 44 P3[2] (io) "GPIO Port 3 - Bit 2. Capable of sinking 12 mA (typical).", 45 P3[4] (io) "GPIO Port 3 - Bit 4. Capable of sinking 12 mA (typical).", 46 P3[6] (io) "GPIO Port 3 - Bit 6. Capable of sinking 12 mA (typical).", 47 VSS (power) "Ground", 48 VCC (power) "Voltage supply"

## CY7C63413-PVXC
designator U?
Low-Speed USB Microcontroller, 8KB EPROM, 48-Pin SSOP, Commercial Grade, Pb-free; Published: 6-Oct-2005; DatasheetVersion: rev.A, Jul-2004; PackageVersion: Mar-2005; PackageReference: SP48; Publisher: Altium Limited; PackageDescription: SSOP; 48 Leads; Body Width 7.5 mm; Pitch 0.635 mm; Pb-Free; Code_JEDEC: MO-118-AA; Code_IPC: SSO48; ComponentLink1Description: Manufacturer Link; ComponentLink1URL: http://www.cypress.com/; ComponentLink2Description: Datasheet; ComponentLink2URL: http://www.cypress.com/portal/server.pt/gateway/PTARGS_0_2_1524_209_259_43/http%3B/sjapp20.mis.cypress.com%3B7001/publishedcontent/publish/design_resources/datasheets/contents/cy7c63413_5.pdf
footprint SP48 (SSOP; 48 Leads; Body Width 7.5 mm; Pitch 0.635 mm; Pb-Free)
pins: 1 D+ (io) "USB differential data; PS/2 clock and data signals", 2 D- (io) "USB differential data; PS/2 clock and data signals", 3 P3[7] (io) "GPIO Port 3 - Bit 7. Capable of sinking 12 mA (typical).", 4 P3[5] (io) "GPIO Port 3 - Bit 5. Capable of sinking 12 mA (typical).", 5 P3[3] (io) "GPIO Port 3 - Bit 3. Capable of sinking 12 mA (typical).", 6 P3[1] (io) "GPIO Port 3 - Bit 1. Capable of sinking 12 mA (typical).", 7 P2[7] (io) "GPIO Port 2 - Bit 7. Capable of sinking 7 mA (typical).", 8 P2[5] (io) "GPIO Port 2 - Bit 5. Capable of sinking 7 mA (typical).", 9 P2[3] (io) "GPIO Port 2 - Bit 3. Capable of sinking 7 mA (typical).", 10 P2[1] (io) "GPIO Port 2 - Bit 1. Capable of sinking 7 mA (typical).", 11 P1[7] (io) "GPIO Port 1 - Bit 7. Capable of sinking 7 mA (typical).", 12 P1[5] (io) "GPIO Port 1 - Bit 5. Capable of sinking 7 mA (typical).", 13 P1[3] (io) "GPIO Port 1 - Bit 3. Capable of sinking 7 mA (typical).", 14 P1[1] (io) "GPIO Port 1 - Bit 1. Capable of sinking 7 mA (typical).", 15 NC "No Connect.  DAC available on the CY7C63513 part.", 16 NC "No Connect.  DAC available on the CY7C63513 part.", 17 P0[7] (io) "GPIO port 0 - Bit 7. Capable of sinking 7 mA (typical)", 18 P0[5] (io) "GPIO port 0 - Bit 5. Capable of sinking 7 mA (typical)", 19 P0[3] (io) "GPIO port 0 - Bit 3. Capable of sinking 7 mA (typical)", 20 P0[1] (io) "GPIO port 0 - Bit 1. Capable of sinking 7 mA (typical)", 21 NC "No Connect.  DAC available on the CY7C63513 part.", 22 NC "No Connect.  DAC available on the CY7C63513 part.", 23 VPP (power) "Programming voltage supply, ground during operation", 24 VSS (power) "Ground", 25 XTALIN (in) "6-MHz ceramic resonator or external clock input", 26 XTALOUT (out) "6-MHz ceramic resonator", 27 NC "No Connect.  DAC available on the CY7C63513 part.", 28 NC "No Connect.  DAC available on the CY7C63513 part.", 29 P0[0] (io) "GPIO port 0 - Bit 0. Capable of sinking 7 mA (typical)", 30 P0[2] (io) "GPIO port 0 - Bit 2. Capable of sinking 7 mA (typical)", 31 P0[4] (io) "GPIO port 0 - Bit 4. Capable of sinking 7 mA (typical)", 32 P0[6] (io) "GPIO port 0 - Bit 6. Capable of sinking 7 mA (typical)", 33 NC "No Connect.  DAC available on the CY7C63513 part.", 34 NC "No Connect.  DAC available on the CY7C63513 part.", 35 P1[0] (io) "GPIO Port 1 - Bit 0. Capable of sinking 7 mA (typical).", 36 P1[2] (io) "GPIO Port 1 - Bit 2. Capable of sinking 7 mA (typical).", 37 P1[4] (io) "GPIO Port 1 - Bit 4. Capable of sinking 7 mA (typical).", 38 P1[6] (io) "GPIO Port 1 - Bit 6. Capable of sinking 7 mA (typical).", 39 P2[0] (io) "GPIO Port 2 - Bit 0. Capable of sinking 7 mA (typical).", 40 P2[2] (io) "GPIO Port 2 - Bit 2. Capable of sinking 7 mA (typical).", 41 P2[4] (io) "GPIO Port 2 - Bit 4. Capable of sinking 7 mA (typical).", 42 P2[6] (io) "GPIO Port 2 - Bit 6. Capable of sinking 7 mA (typical).", 43 P3[0] (io) "GPIO Port 3 - Bit 0. Capable of sinking 12 mA (typical).", 44 P3[2] (io) "GPIO Port 3 - Bit 2. Capable of sinking 12 mA (typical).", 45 P3[4] (io) "GPIO Port 3 - Bit 4. Capable of sinking 12 mA (typical).", 46 P3[6] (io) "GPIO Port 3 - Bit 6. Capable of sinking 12 mA (typical).", 47 VSS (power) "Ground", 48 VCC (power) "Voltage supply"

## CY7C63413-PXC
designator U?
Low-Speed USB Microcontroller, 8KB EPROM, 40-Pin PDIP, Commercial Grade, Pb-free; Published: 6-Oct-2005; DatasheetVersion: rev.A, Jul-2004; PackageVersion: Mar-2005; PackageReference: P2; Publisher: Altium Limited; PackageDescription: DIP, Molded; 40 Leads; Row Spacing 15.24 mm; Pitch 2.54 mm; Pb-Free; ComponentLink1Description: Manufacturer Link; ComponentLink1URL: http://www.cypress.com/; ComponentLink2Description: Datasheet; ComponentLink2URL: http://www.cypress.com/portal/server.pt/gateway/PTARGS_0_2_1524_209_259_43/http%3B/sjapp20.mis.cypress.com%3B7001/publishedcontent/publish/design_resources/datasheets/contents/cy7c63413_5.pdf
footprint P2 (DIP, Molded; 40 Leads; Row Spacing 15.24 mm; Pitch 2.54 mm; Pb-Free)
pins: 1 D+ (io) "USB differential data; PS/2 clock and data signals", 2 D- (io) "USB differential data; PS/2 clock and data signals", 3 P3[7] (io) "GPIO Port 3 - Bit 7. Capable of sinking 12 mA (typical).", 4 P3[5] (io) "GPIO Port 3 - Bit 5. Capable of sinking 12 mA (typical).", 5 P3[3] (io) "GPIO Port 3 - Bit 3. Capable of sinking 12 mA (typical).", 6 P3[1] (io) "GPIO Port 3 - Bit 1. Capable of sinking 12 mA (typical).", 7 P2[7] (io) "GPIO Port 2 - Bit 7. Capable of sinking 7 mA (typical).", 8 P2[5] (io) "GPIO Port 2 - Bit 5. Capable of sinking 7 mA (typical).", 9 P2[3] (io) "GPIO Port 2 - Bit 3. Capable of sinking 7 mA (typical).", 10 P2[1] (io) "GPIO Port 2 - Bit 1. Capable of sinking 7 mA (typical).", 11 P1[7] (io) "GPIO Port 1 - Bit 7. Capable of sinking 7 mA (typical).", 12 P1[5] (io) "GPIO Port 1 - Bit 5. Capable of sinking 7 mA (typical).", 13 P1[3] (io) "GPIO Port 1 - Bit 3. Capable of sinking 7 mA (typical).", 14 P1[1] (io) "GPIO Port 1 - Bit 1. Capable of sinking 7 mA (typical).", 15 P0[7] (io) "GPIO port 0 - Bit 7. Capable of sinking 7 mA (typical)", 16 P0[5] (io) "GPIO port 0 - Bit 5. Capable of sinking 7 mA (typical)", 17 P0[3] (io) "GPIO port 0 - Bit 3. Capable of sinking 7 mA (typical)", 18 P0[1] (io) "GPIO port 0 - Bit 1. Capable of sinking 7 mA (typical)", 19 VPP (power) "Programming voltage supply, ground during operation", 20 VSS (power) "Ground", 21 XTALIN (in) "6-MHz ceramic resonator or external clock input", 22 XTALOUT (out) "6-MHz ceramic resonator", 23 P0[0] (io) "GPIO port 0 - Bit 0. Capable of sinking 7 mA (typical)", 24 P0[2] (io) "GPIO port 0 - Bit 2. Capable of sinking 7 mA (typical)", 25 P0[4] (io) "GPIO port 0 - Bit 4. Capable of sinking 7 mA (typical)", 26 P0[6] (io) "GPIO port 0 - Bit 6. Capable of sinking 7 mA (typical)", 27 P1[0] (io) "GPIO Port 1 - Bit 0. Capable of sinking 7 mA (typical).", 28 P1[2] (io) "GPIO Port 1 - Bit 2. Capable of sinking 7 mA (typical).", 29 P1[4] (io) "GPIO Port 1 - Bit 4. Capable of sinking 7 mA (typical).", 30 P1[6] (io) "GPIO Port 1 - Bit 6. Capable of sinking 7 mA (typical).", 31 P2[0] (io) "GPIO Port 2 - Bit 0. Capable of sinking 7 mA (typical).", 32 P2[2] (io) "GPIO Port 2 - Bit 2. Capable of sinking 7 mA (typical).", 33 P2[4] (io) "GPIO Port 2 - Bit 4. Capable of sinking 7 mA (typical).", 34 P2[6] (io) "GPIO Port 2 - Bit 6. Capable of sinking 7 mA (typical).", 35 P3[0] (io) "GPIO Port 3 - Bit 0. Capable of sinking 12 mA (typical).", 36 P3[2] (io) "GPIO Port 3 - Bit 2. Capable of sinking 12 mA (typical).", 37 P3[4] (io) "GPIO Port 3 - Bit 4. Capable of sinking 12 mA (typical).", 38 P3[6] (io) "GPIO Port 3 - Bit 6. Capable of sinking 12 mA (typical).", 39 VSS (power) "Ground", 40 VCC (power) "Voltage supply"